# EAGLE library part LTC_BY_ELEMENT14_BATCH_1_LTC1044CS8PBF (library Low.Noise.Current.Source)
Switched Capacitor Voltage Converter
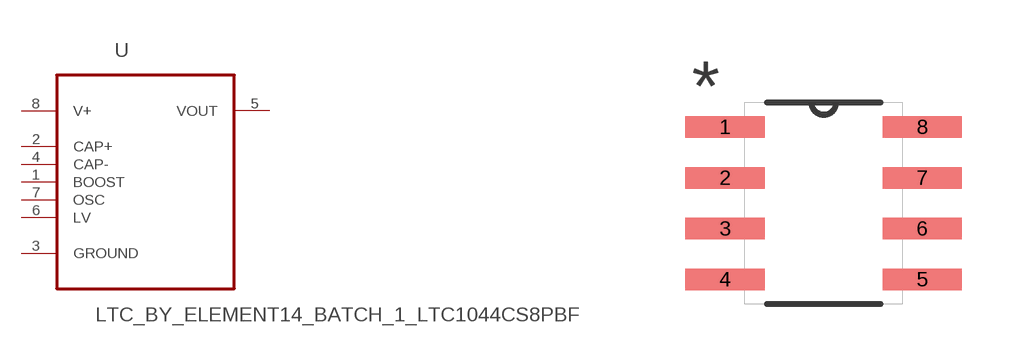
[diagram p2: symbol with the pads of LTC_BY_ELEMENT14_BATCH_1_SOIC127P600X175-8N; footprint LTC_BY_ELEMENT14_BATCH_1_SOIC127P600X175-8N]

Designator prefix U

## LTC_BY_ELEMENT14_BATCH_1_LTC1044CS8PBF (MPN: LTC1044CS8#PBF; OC_FARNELL: 1663593; OC_NEWARK: 55M8900; PACKAGE: SOIC-8; SUPPLIER: Linear Technology)  [LTC_BY_ELEMENT14_BATCH_1_SOIC127P600X175-8N]
1  BOOST  in
2  CAP+  pas
3  GROUND  pas
4  CAP-  pas
5  VOUT  out
6  LV  in
7  OSC  in
8  V+  pwr

## Footprint LTC_BY_ELEMENT14_BATCH_1_SOIC127P600X175-8N (pad centres in mm)
smd 1.981 x 0.533: 1 -2.464,1.905; 2 -2.464,0.635; 3 -2.464,-0.635; 4 -2.464,-1.905; 5 2.464,-1.905; 6 2.464,-0.635; 7 2.464,0.635; 8 2.464,1.905